# EAGLE library part HY911105A (library blinkinlabs)
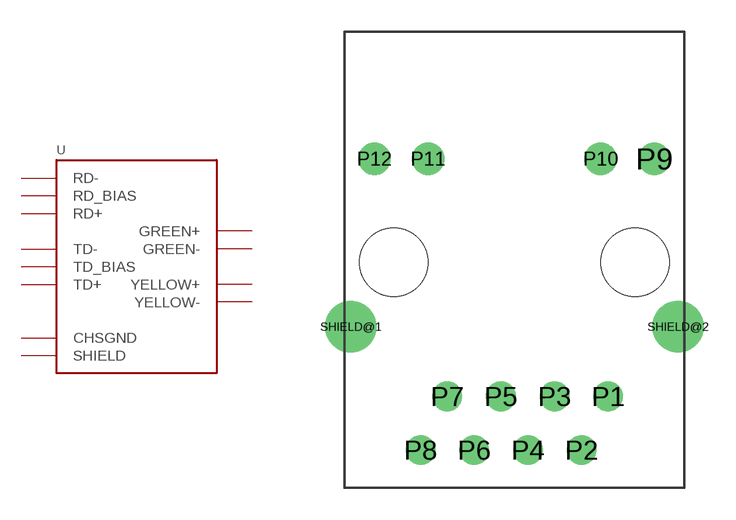
[diagram p29: symbol with the pads of RJ45_HY911105A; footprint RJ45_HY911105A]

Designator prefix -

## HY911105A  [RJ45_HY911105A]
P1  TD+
P2  TD-
P3  RD+
P4  TD_BIAS
P5  RD_BIAS
P6  RD-
P8  CHSGND
P9  GREEN+
P10  GREEN-
P11  YELLOW-
P12  YELLOW+
SHIELD@1  SHIELD
SHIELD@2  SHIELD

## Footprint RJ45_HY911105A (pad centres in mm)
drill 0.89: P1 4.44,-6.35; P2 3.18,-8.89; P3 1.9,-6.35; P4 0.64,-8.89; P5 -0.64,-6.35; P6 -1.9,-8.89; P7 -3.18,-6.35; P8 -4.44,-8.89
drill 1.02: P9 6.625,4.9; P10 4.085,4.9; P11 -4.085,4.9; P12 -6.625,4.9
drill 1.63: SHIELD@1 -7.745,-3.05; SHIELD@2 7.745,-3.05
hole 3.25 at -5.715,0
hole 3.25 at 5.715,0